# Altium schematic symbol library MICROUSB.SchLib: 1 symbol
Pins are listed as number, name and electrical type; pins without a type are passive.

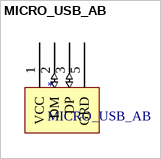
[diagram p0: symbol MICRO_USB_AB]

## MICRO_USB_AB
designator *
footprint MICRO_USB_AB (Molex, Micro USB type AB 47589-0001)
pins: 1 VCC (power), 2 DM (io), 3 DP (io), 5 GRD (power)